# EAGLE library part MICROCHIP_TECHNOLOGIES-CAN_TRANSCEIVER-MCP25612FD-H/SL (library Module_ICs)
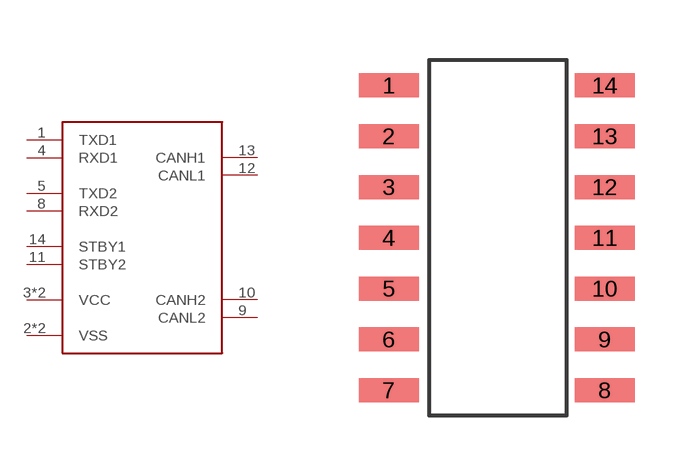
[diagram p19: symbol with the pads of MICROCHIP_TECHNOLOGIES-CAN_TRANSCEIVER-MCP25612FD-H/SL; footprint MICROCHIP_TECHNOLOGIES-CAN_TRANSCEIVER-MCP25612FD-H/SL]

Designator prefix -

## MICROCHIP_TECHNOLOGIES-CAN_TRANSCEIVER-MCP25612FD-H/SL  [MICROCHIP_TECHNOLOGIES-CAN_TRANSCEIVER-MCP25612FD-H/SL]
1  TXD1
2  VSS
3  VCC
4  RXD1
5  TXD2
6  VSS
7  VCC
8  RXD2
9  CANL2
10  CANH2
11  STBY2
12  CANL1
13  CANH1
14  STBY1

## Footprint MICROCHIP_TECHNOLOGIES-CAN_TRANSCEIVER-MCP25612FD-H/SL (pad centres in mm)
smd 1.5 x 0.6: 1 0,0; 2 0,-1.27; 3 0,-2.54; 4 0,-3.81; 5 0,-5.08; 6 0,-6.35; 7 0,-7.62; 8 5.4,-7.62; 9 5.4,-6.35; 10 5.4,-5.08; 11 5.4,-3.81; 12 5.4,-2.54; 13 5.4,-1.27; 14 5.4,0